# EAGLE library part MCP73213T-A61I/MF (library MCP73213-A61I)
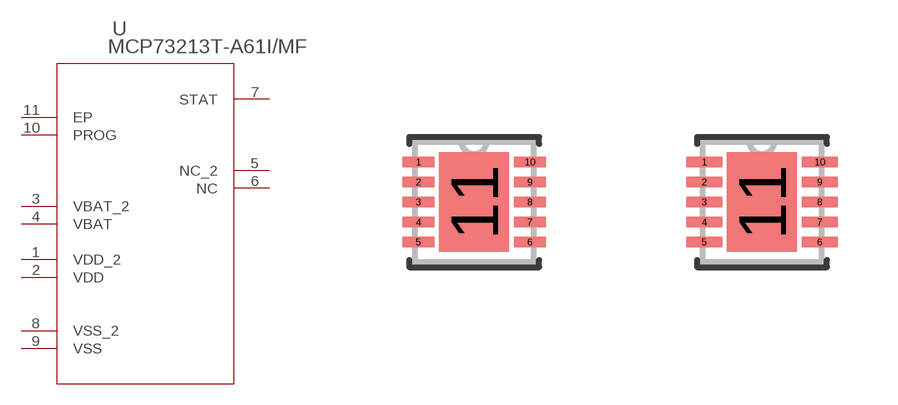
[diagram p0: symbol with the pads of DFN10_3X3MC_MCH; footprints DFN10_3X3MC_MCH, DFN10_3X3MC_MCH-M]

Designator prefix U

## MCP73213T-A61I/MF (BUILT_BY: EMA_Molly; COPYRIGHT: Copyright (C) 2018 Accelerated Designs. All rights reserved; MANUFACTURER_PART_NUMBER: MCP73213T-A61I/MF; SOURCELIBRARY: Microchip_2019-09-03; VENDOR: Microchip)  [DFN10_3X3MC_MCH]
1  VDD_2  pwr
2  VDD  pwr
3  VBAT_2  pwr
4  VBAT  pwr
5  NC_2  nc
6  NC  nc
7  STAT  out
8  VSS_2  pwr
9  VSS  pwr
10  PROG  pas
11  EP  pas

## MCP73213T-A61I/MFDFN10_3X3MC_MCH-M (BUILT_BY: EMA_Molly; COPYRIGHT: Copyright (C) 2018 Accelerated Designs. All rights reserved; MANUFACTURER_PART_NUMBER: MCP73213T-A61I/MF; SOURCELIBRARY: Microchip_2019-09-03; VENDOR: Microchip)  [DFN10_3X3MC_MCH-M]
Pads as for DFN10_3X3MC_MCH

## MCP73213T-A61I/MFDFN10_3X3MC_MCH-L (BUILT_BY: EMA_Molly; COPYRIGHT: Copyright (C) 2018 Accelerated Designs. All rights reserved; MANUFACTURER_PART_NUMBER: MCP73213T-A61I/MF; SOURCELIBRARY: Microchip_2019-09-03; VENDOR: Microchip)  [DFN10_3X3MC_MCH-L]
Pads as for DFN10_3X3MC_MCH

## Footprint DFN10_3X3MC_MCH (pad centres in mm)
smd 0.808 x 0.255: 1 -1.395,1; 2 -1.395,0.5; 3 -1.395,0; 4 -1.395,-0.5; 5 -1.395,-1; 6 1.395,-1; 7 1.395,-0.5; 8 1.395,0; 9 1.395,0.5; 10 1.395,1
smd 1.753 x 2.489: 11 0,0

## Footprint DFN10_3X3MC_MCH-M (pad centres in mm)
smd 0.908 x 0.255: 1 -1.445,1; 2 -1.445,0.5; 3 -1.445,0; 4 -1.445,-0.5; 5 -1.445,-1; 6 1.445,-1; 7 1.445,-0.5; 8 1.445,0; 9 1.445,0.5; 10 1.445,1
smd 1.753 x 2.489: 11 0,0

## Footprint DFN10_3X3MC_MCH-L (pad centres in mm)
smd 0.708 x 0.255: 1 -1.345,1; 2 -1.345,0.5; 3 -1.345,0; 4 -1.345,-0.5; 5 -1.345,-1; 6 1.345,-1; 7 1.345,-0.5; 8 1.345,0; 9 1.345,0.5; 10 1.345,1
smd 1.753 x 2.489: 11 0,0